# Altium footprint library PcbLib_Acura.PcbLib: 154 footprints (part 9 of 10)
Each footprint in its own frame and in the unit in brackets; x right, y up, seen from the top. Pads: shape width x height; smd on the part's side, far side on the other; paste and mask are expansions set on the pad; w line width, h text height; cw(c..) or ccw(c..) is an arc to the next point about the centre after c.
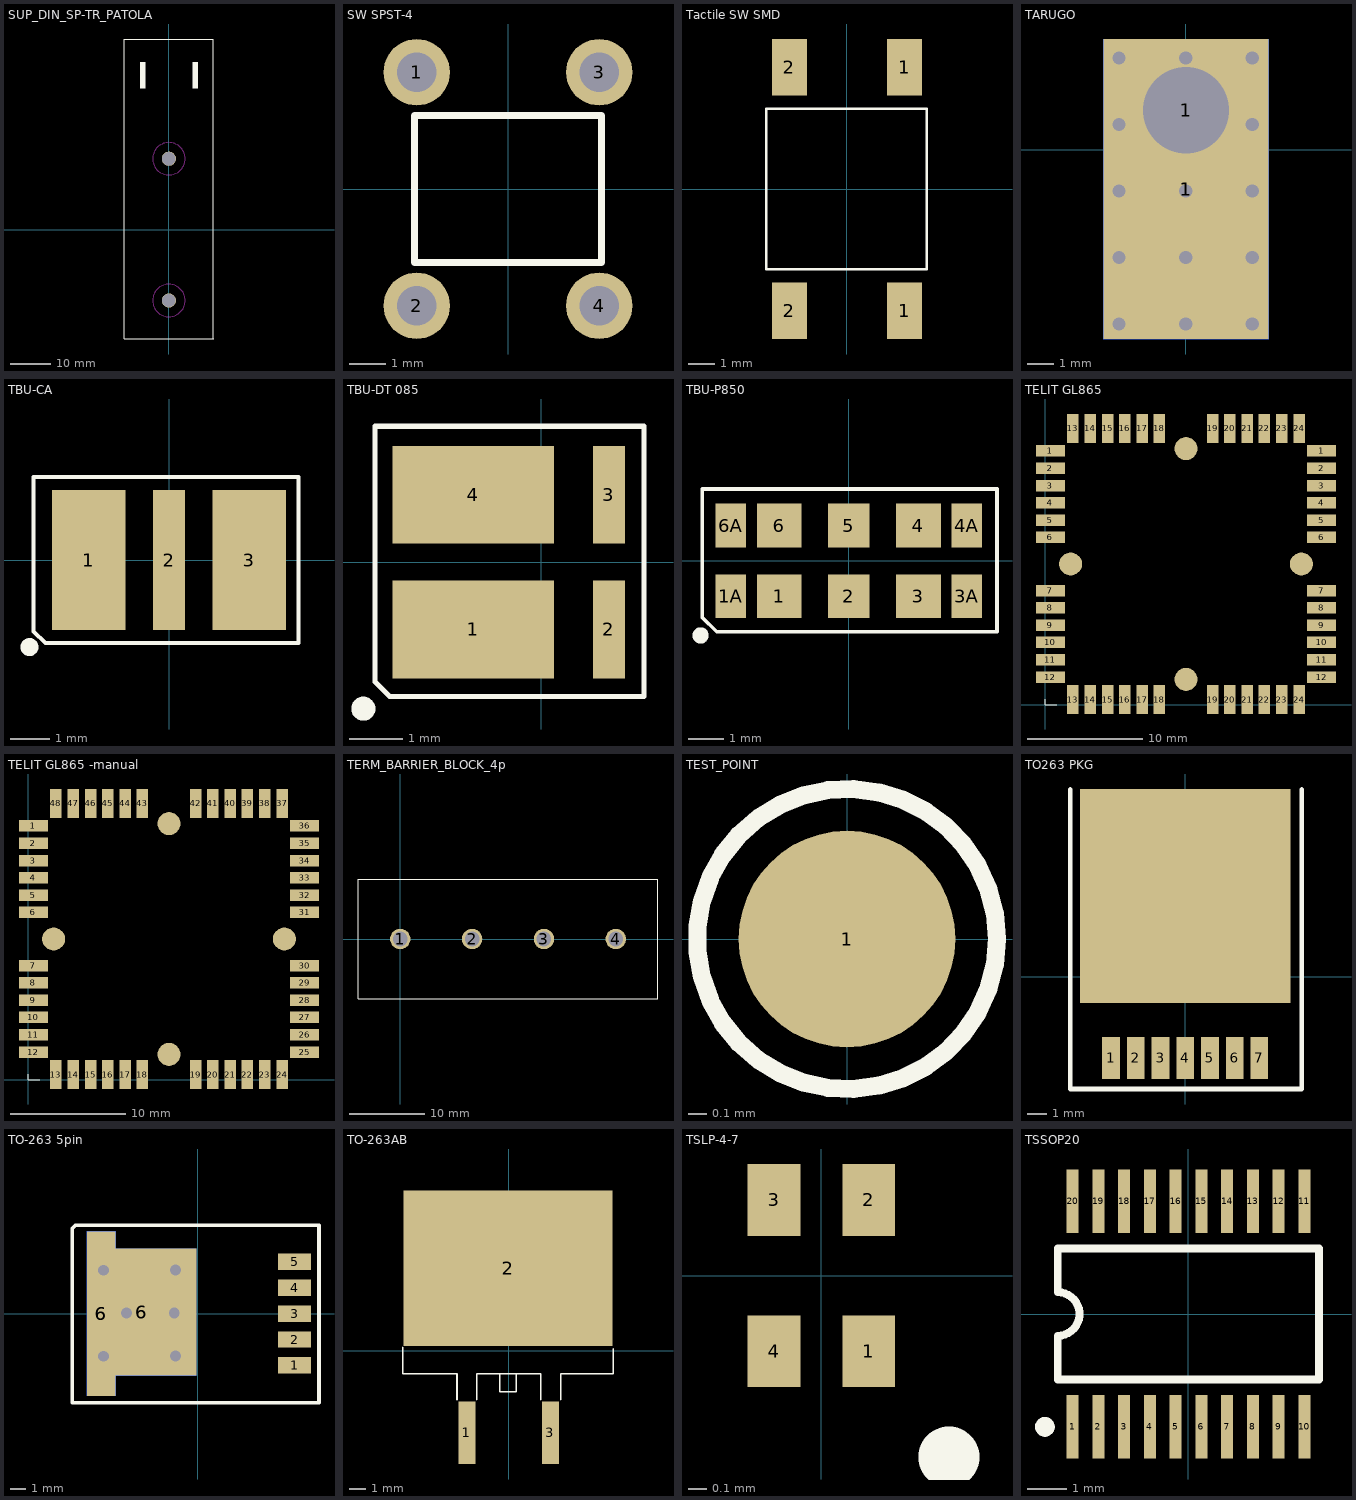
[diagram p8: the footprints below, top view; thin cyan lines are the x and y axes]

## SUP_DIN_SP-TR_PATOLA [mm]
pads (3):
  round 3.5 hole 3.3 unplated: ""(0,-17.5) ""(0,-17.5) ""(0,17.5)
Top Overlay:
  rectangle: 5.85,34.8 7.15,41.35
  rectangle: -7.1,34.8 -5.8,41.35
  lines w0.1: -11,-27 0,-27 11.05,-27 ; -11,-26.95 -11,47.05 11,47.05 11,-26.9
Keep-Out Layer:
  circle w0.254: c0,17.5 r4.003
  circle w0.254: c0,-17.5 r4.006

## SW SPST-4 [mm] "Circuit Breaker; 2 Leads"
pads (4):
  round 1.85 hole 1.1: 1(-2.54,3.25) 2(-2.54,-3.25) 3(2.54,3.25) 4(2.54,-3.25)
Top Overlay:
  lines w0.2: -2.6,-2.05 -2.6,2.05 2.6,2.05 2.6,-2.05 -2.6,-2.05

## Tactile SW SMD [mm]
pads (4):
  rect 1.3x2.1 smd: 1(2.15,-4.55) 1(2.15,4.55) 2(-2.15,-4.55) 2(-2.15,4.55)
Top Overlay:
  lines w0.1: -3.02,-3 -3.02,3 2.98,3 2.98,-3 -3.02,-3

## TARUGO [mm]
pads (3):
  rect 6.3x11.45 smd: 1(0,-1.5)
  rect 6.3x11.45 smd far side: 1(0,-1.5)
  round 5.3 hole 3.3: 1(0,1.5)
via -0.01,3.5 diameter 0.711 hole 0.5
via -0.01,-1.58 diameter 0.711 hole 0.5
via -2.55,3.5 diameter 0.711 hole 0.5
via -2.55,0.96 diameter 0.711 hole 0.5
via -2.55,-1.58 diameter 0.711 hole 0.5
via -2.55,-4.12 diameter 0.711 hole 0.5
via -2.55,-6.66 diameter 0.711 hole 0.5
via -0.01,-6.66 diameter 0.711 hole 0.5
via -0.01,-4.12 diameter 0.711 hole 0.5
via 2.53,-6.66 diameter 0.711 hole 0.5
via 2.53,-4.12 diameter 0.711 hole 0.5
via 2.53,-1.58 diameter 0.711 hole 0.5
via 2.53,0.96 diameter 0.711 hole 0.5
via 2.53,3.5 diameter 0.711 hole 0.5

## TBU-CA [mm]
pads (3):
  rect 1.85x3.53 smd: 1(-2.025,0) 3(2.025,0)
  rect 0.8x3.53 smd: 2(0,0)
Top Overlay:
  circle w0.254: c-3.525,-2.2 r0.1
  lines w0.1: -3.425,-1.8 -3.125,-2.1 -2.925,-2.1 3.275,-2.1 3.275,1.8 3.275,2.1 -3.425,2.1 -3.425,-1.8

## TBU-DT 085 [mm]
pads (4):
  rect 3.05x1.85 smd: 1(-1.283,-1.27) 4(-1.283,1.27)
  rect 0.6x1.85 smd: 2(1.283,-1.27) 3(1.283,1.27)
Top Overlay:
  circle w0.254: c-3.356,-2.77 r0.1
  lines w0.1: -3.137,-2.261 -2.857,-2.54 1.943,-2.54 1.943,2.565 -3.137,2.565 -3.137,-2.261

## TBU-P850 [mm]
pads (10):
  rect 1.25x1.225 smd: 1(-1.95,-0.987) 3(1.95,-0.987) 4(1.95,0.988) 6(-1.95,0.988)
  rect 0.85x1.225 smd: 1A(-3.3,-0.987) 3A(3.3,-0.987) 4A(3.3,0.988) 6A(-3.3,0.988)
  rect 1.15x1.225 smd: 2(0,-0.987) 5(0,0.988)
Top Overlay:
  circle w0.254: c-4.15,-2.087 r0.1
  lines w0.1: -4.1,-1.587 -3.7,-1.987 4.15,-1.987 4.15,2.013 -4.1,2.013 -4.1,-1.587

## TELIT GL865 [mm]
pads (52):
  rect 2.5x1 smd: 1(0.45,22) 1(23.95,22) 2(0.45,20.5) 2(23.95,20.5) 3(0.45,19) 3(23.95,19) 4(0.45,17.5) 4(23.95,17.5) 5(0.45,16) 5(23.95,16) 6(0.45,14.5) 6(23.95,14.5) 7(0.45,9.9) 7(23.95,9.9) 8(0.45,8.4) 8(23.95,8.4) 9(0.45,6.9) 9(23.95,6.9) 10(0.45,5.4) 10(23.95,5.4) 11(0.45,3.9) 11(23.95,3.9) 12(0.45,2.4) 12(23.95,2.4)
  rect 1x2.5 smd: 13(2.4,0.45) 13(2.4,23.95) 14(3.9,0.45) 14(3.9,23.95) 15(5.4,0.45) 15(5.4,23.95) 16(6.9,0.45) 16(6.9,23.95) 17(8.4,0.45) 17(8.4,23.95) 18(9.9,0.45) 18(9.9,23.95) 19(14.5,0.45) 19(14.5,23.95) 20(16,0.45) 20(16,23.95) 21(17.5,0.45) 21(17.5,23.95) 22(19,0.45) 22(19,23.95) 23(20.5,0.45) 23(20.5,23.95) 24(22,0.45) 24(22,23.95)
  round 2 smd: ""(2.2,12.2) ""(12.2,2.2) ""(12.2,22.2) ""(22.2,12.2)
Top Overlay:
  lines w0.1: 0,0.5 0,0 1,0

## TELIT GL865 -manual [mm]
pads (52):
  rect 2.5x1 smd: 1(0.45,22) 2(0.45,20.5) 3(0.45,19) 4(0.45,17.5) 5(0.45,16) 6(0.45,14.5) 7(0.45,9.9) 8(0.45,8.4) 9(0.45,6.9) 10(0.45,5.4) 11(0.45,3.9) 12(0.45,2.4) 25(23.95,2.4) 26(23.95,3.9) 27(23.95,5.4) 28(23.95,6.9) 29(23.95,8.4) 30(23.95,9.9) 31(23.95,14.5) 32(23.95,16) 33(23.95,17.5) 34(23.95,19) 35(23.95,20.5) 36(23.95,22)
  rect 1x2.5 smd: 13(2.4,0.45) 14(3.9,0.45) 15(5.4,0.45) 16(6.9,0.45) 17(8.4,0.45) 18(9.9,0.45) 19(14.5,0.45) 20(16,0.45) 21(17.5,0.45) 22(19,0.45) 23(20.5,0.45) 24(22,0.45) 37(22,23.95) 38(20.5,23.95) 39(19,23.95) 40(17.5,23.95) 41(16,23.95) 42(14.5,23.95) 43(9.9,23.95) 44(8.4,23.95) 45(6.9,23.95) 46(5.4,23.95) 47(3.9,23.95) 48(2.4,23.95)
  round 2 smd: ""(2.2,12.2) ""(12.2,2.2) ""(12.2,22.2) ""(22.2,12.2)
Top Overlay:
  lines w0.1: 0,0.5 0,0 1,0

## TERM_BARRIER_BLOCK_4p [mm]
pads (4):
  round 2.7 hole 1.93: 1(0,0) 2(9.525,0) 3(19.05,0) 4(28.575,0)
Top Overlay:
  lines w0.1: -5.59,-7.93 -5.59,7.93 34.16,7.93 34.16,-7.93 -5.59,-7.93

## TEST_POINT [mm]
pads (1):
  round 1.2 smd: 1(0,0)
Top Overlay:
  circle w0.1: c0,0 r0.83

## TO263 PKG [mm] "TO-263 Surface Mount Power Package"
height 4.57
pads (8):
  rect 0.91x2.16 smd: 1(-3.81,-4.16) 2(-2.54,-4.16) 3(-1.27,-4.16) 4(0,-4.16) 5(1.27,-4.16) 6(2.54,-4.16) 7(3.81,-4.16)
  rect 10.8x11 smd: ""(0,4.16)
Top Overlay:
  lines w0.254: -5.91,9.64 -5.91,-5.76 5.99,-5.76 5.99,9.64

## TO-263 5pin [mm]
pads (9):
  rect 2.16x1.07 smd: 1(6.35,-3.4) 2(6.35,-1.7) 3(6.35,0) 4(6.35,1.7) 5(6.35,3.4)
  rect 1.9x10.8 smd: 6(-6.35,0)
  rect 1.9x10.8 smd far side: 6(-6.35,0)
  rect 7.2x8.35 smd: 6(-3.7,0.1)
  rect 7.2x8.35 smd far side: 6(-3.7,0.1)
via -1.48,2.86 diameter 1.27 hole 0.711
via -1.48,-2.79 diameter 1.27 hole 0.711
via -1.55,0.05 diameter 1.27 hole 0.711
via -4.7,0.05 diameter 1.27 hole 0.711
via -6.2,-2.8 diameter 1.27 hole 0.711
via -6.2,2.85 diameter 1.27 hole 0.711
Top Overlay:
  lines w0.254: 7.9,-5.85 -7.7,-5.85 -8.25,-5.85 -8.25,5.6 -8.05,5.8 -7.8,5.8 7.95,5.8 7.95,-5.85

## TO-263AB [mm] "TO-263AB"
pads (3):
  rect 1.05x3.8 smd: 1(-2.54,-5) 3(2.54,-5)
  rect 12.7x9.45 smd: 2(-0.04,5)
Top Overlay:
  lines w0.1: -6.44,0.2 -6.44,-1.4 -3.14,-1.4 -3.14,-3 ; -1.94,-3 -1.94,-1.4 1.96,-1.4 1.96,-3 ; -0.54,-1.4 -0.54,-2.5 0.46,-2.5 0.46,-1.4 ; 3.16,-3 3.16,-1.4 6.36,-1.4 6.36,0.1

## TSLP-4-7 [mm]
pads (4):
  rect 0.28x0.38 smd: 1(0.25,-0.4) 2(0.25,0.4) 3(-0.25,0.4) 4(-0.25,-0.4)
Top Overlay:
  circle w0.25: c0.674,-0.96 r0.036

## TSSOP20 [mm] "Shrink Small Outline; 20 Leads; Body Width 4.4 mm; Pitch 0.65 mm"
height 1.1
pads (20):
  rect 0.3x1.6 smd: 1(-2.925,-2.85) 2(-2.275,-2.85) 3(-1.625,-2.85) 4(-0.975,-2.85) 5(-0.325,-2.85) 6(0.325,-2.85) 7(0.975,-2.85) 8(1.625,-2.85) 9(2.275,-2.85) 10(2.925,-2.85) 11(2.925,2.85) 12(2.275,2.85) 13(1.625,2.85) 14(0.975,2.85) 15(0.325,2.85) 16(-0.325,2.85) 17(-0.975,2.85) 18(-1.625,2.85) 19(-2.275,2.85) 20(-2.925,2.85)
Top Overlay:
  circle w0.25: c-3.625,-2.85 r0.125
  lines w0.2: -3.3,-1.65 3.3,-1.65 3.3,1.65 -3.3,1.65 -3.3,0.55 cw(c-3.3,0) -3.3,-0.55 -3.3,-1.65